# Altium schematic symbol library PCB_Terminal_Block_Sch.SchLib: 4 symbols
Pins are listed as number, name and electrical type; pins without a type are passive.

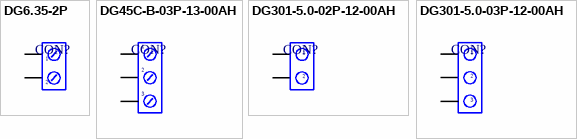
[diagram p0: symbols DG6.35-2P to DG301-5.0-03P-12-00AH]

## DG6.35-2P
designator CON?
footprint DG636-6.35-2P
pins: 1, 2

## DG45C-B-03P-13-00AH
designator CON?
footprint DG45C-B-03P
pins: 1, 2, 3

## DG301-5.0-02P-12-00AH
designator CON?
footprint DG301-5.0-02P-12-00AH
pins: 1, 2

## DG301-5.0-03P-12-00AH
designator CON?
footprint DG301-5.0-03P-12-00AH
pins: 1, 2, 3